# Altium schematic symbol library STM32H743VIT6.SchLib: 1 symbol
Pins are listed as number, name and electrical type; pins without a type are passive.

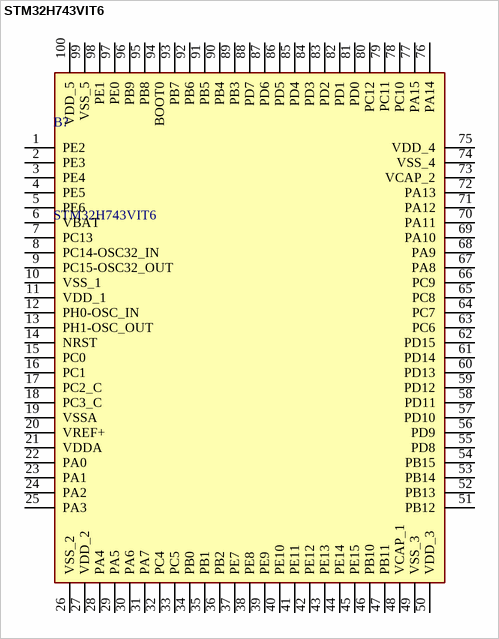
[diagram p0: symbol STM32H743VIT6]

## STM32H743VIT6
designator B?
ARM Microcontrollers - MCU High-performance and DSP with DP-FPU, ARM Cortex-M7 MCU with 2MBytes Flash, 1MB RAM, 400 MHz CPU, Art Accelerator, L1 cache, external memory interface, large set of peripherals; Manufacturer_Name: STMicroelectronics; Geometry.Height: 1.6mm; Mouser Part Number: 511-STM32H743VIT6; Mouser Price/Stock: https://www.mouser.co.uk/ProductDetail/STMicroelectronics/STM32H743VIT6?qs=FNcb6ahWXRw0Me5k2ZHgWw%3D%3D; Manufacturer_Part_Number: STM32H743VIT6; Datasheet Link: https://www.st.com/resource/en/datasheet/stm32h743vi.pdf
footprint QFP50P1600X1600X160-100N
pins: 1 PE2, 2 PE3, 3 PE4, 4 PE5, 5 PE6, 6 VBAT, 7 PC13, 8 PC14-OSC32_IN, 9 PC15-OSC32_OUT, 10 VSS_1, 11 VDD_1, 12 PH0-OSC_IN, 13 PH1-OSC_OUT, 14 NRST, 15 PC0, 16 PC1, 17 PC2_C, 18 PC3_C, 19 VSSA, 20 VREF+, 21 VDDA, 22 PA0, 23 PA1, 24 PA2, 25 PA3, 26 VSS_2, 27 VDD_2, 28 PA4, 29 PA5, 30 PA6, 31 PA7, 32 PC4, 33 PC5, 34 PB0, 35 PB1, 36 PB2, 37 PE7, 38 PE8, 39 PE9, 40 PE10, 41 PE11, 42 PE12, 43 PE13, 44 PE14, 45 PE15, 46 PB10, 47 PB11, 48 VCAP_1, 49 VSS_3, 50 VDD_3, 51 PB12, 52 PB13, 53 PB14, 54 PB15, 55 PD8, 56 PD9, 57 PD10, 58 PD11, 59 PD12, 60 PD13, 61 PD14, 62 PD15, 63 PC6, 64 PC7, 65 PC8, 66 PC9, 67 PA8, 68 PA9, 69 PA10, 70 PA11, 71 PA12, 72 PA13, 73 VCAP_2, 74 VSS_4, 75 VDD_4, 76 PA14, 77 PA15, 78 PC10, 79 PC11, 80 PC12, 81 PD0, 82 PD1, 83 PD2, 84 PD3, 85 PD4, 86 PD5, 87 PD6, 88 PD7, 89 PB3, 90 PB4, 91 PB5, 92 PB6, 93 PB7, 94 BOOT0, 95 PB8, 96 PB9, 97 PE0, 98 PE1, 99 VSS_5, 100 VDD_5